# EAGLE library part CON-HE10-HARTING-10PV (library Clean-Kong)
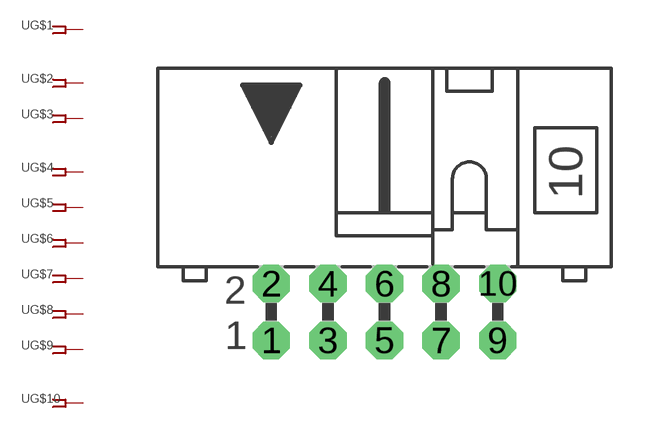
[diagram p12: symbol with the pads of ML10V; footprint ML10V]

Designator prefix -; gates G$1=FPIN G$2=FPIN G$3=FPIN G$4=FPIN G$5=FPIN G$6=FPIN G$7=FPIN G$8=FPIN G$9=FPIN G$10=FPIN

## CON-HE10-HARTING-10PV  [ML10V]
1  G$1:1  pas
2  G$2:1  pas
3  G$3:1  pas
4  G$4:1  pas
5  G$5:1  pas
6  G$6:1  pas
7  G$7:1  pas
8  G$8:1  pas
9  G$9:1  pas
10  G$10:1  pas

## Footprint ML10V (pad centres in mm)
drill 0.7 pad 1.676 octagon: 1 0,0; 2 0,2.54; 3 2.54,0; 4 2.54,2.54; 5 5.08,0; 6 5.08,2.54; 7 7.62,0; 8 7.62,2.54; 9 10.16,0; 10 10.16,2.54